# EAGLE library part PIC18F8*20 (library Julian_microchip)
80-Pin High Performance, 1 Mbit Enhanced FLASH Microcontrollers with A/D and expansion bus DEVICE DIFFERENCES Feature PIC18F8520 PIC18F8620 PIC18F8720 On-chip Program Memory (Kbytes) 32 64 128 Data Memory (bytes) 2048 3840 3840 Boot Block (bytes) 2048 512 512 Timer1 Low Power Option Yes No No I/O Ports Ports A, B, C, D, E, F, G, H,J Ports A, B, C, D, E, F, G, H,J Ports A, B, C, D, E, F, G, H,J A/D Channels 16 16 16 External Memory Interface Yes Yes Yes Package Types 80-pin TQFP 80-pin TQFP 80-pin TQFP NOTES: E suffix means the extended temperature range from -40°C to +120°C I suffix means the industrial temperature range from -40°C to +85°C F only after 18, means normal voltage range, like 18F8520 FL after 18, means extended voltage range, like 18FL8520
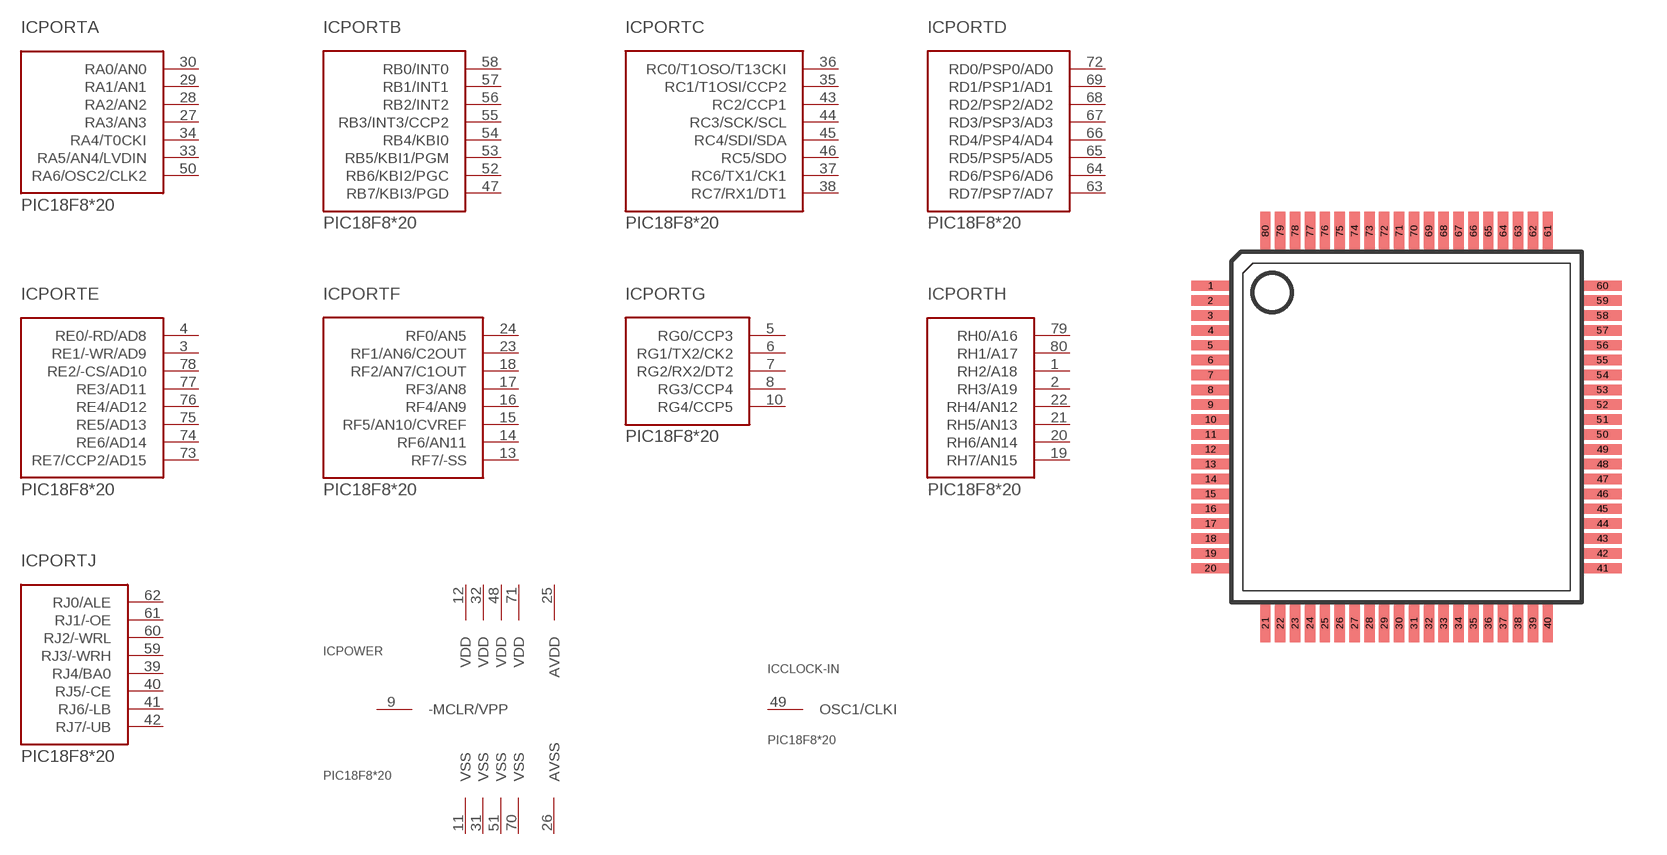
[diagram p1: symbol with the pads of TQFP80; footprint TQFP80]

Designator prefix IC; gates CLOCK-IN=PIC18FXX20-CLKIN PORTA=PIC18FXX20-PORTA PORTB=PIC18FXX20-PORTB PORTC=PIC18FXX20-PORTC PORTD=PIC18FXX20-PORTD PORTE=PIC18FXX20-PORTE PORTF=PIC18FXX20-PORTF PORTG=PIC18FXX20-PORTG PORTH=PIC18FXX20-PORTH PORTJ=PIC18FXX20-PORTJ POWER=PIC18FXX20-POWER

## PIC18F8520-E/PT, PIC18F8620-E/PT, PIC18F8720-E/PT  [TQFP80]
1  PORTH:RH2/A18
2  PORTH:RH3/A19
3  PORTE:RE1/-WR/AD9
4  PORTE:RE0/-RD/AD8
5  PORTG:RG0/CCP3
6  PORTG:RG1/TX2/CK2
7  PORTG:RG2/RX2/DT2
8  PORTG:RG3/CCP4
9  POWER:-MCLR/VPP  in
10  PORTG:RG4/CCP5
11  POWER:VSS  pwr
12  POWER:VDD  pwr
13  PORTF:RF7/-SS
14  PORTF:RF6/AN11
15  PORTF:RF5/AN10/CVREF
16  PORTF:RF4/AN9
17  PORTF:RF3/AN8
18  PORTF:RF2/AN7/C1OUT
19  PORTH:RH7/AN15
20  PORTH:RH6/AN14
21  PORTH:RH5/AN13
22  PORTH:RH4/AN12
23  PORTF:RF1/AN6/C2OUT
24  PORTF:RF0/AN5
25  POWER:AVDD  pwr
26  POWER:AVSS  pwr
27  PORTA:RA3/AN3
28  PORTA:RA2/AN2
29  PORTA:RA1/AN1
30  PORTA:RA0/AN0
31  POWER:VSS  pwr
32  POWER:VDD  pwr
33  PORTA:RA5/AN4/LVDIN
34  PORTA:RA4/T0CKI
35  PORTC:RC1/T1OSI/CCP2
36  PORTC:RC0/T1OSO/T13CKI
37  PORTC:RC6/TX1/CK1
38  PORTC:RC7/RX1/DT1
39  PORTJ:RJ4/BA0
40  PORTJ:RJ5/-CE
41  PORTJ:RJ6/-LB
42  PORTJ:RJ7/-UB
43  PORTC:RC2/CCP1
44  PORTC:RC3/SCK/SCL
45  PORTC:RC4/SDI/SDA
46  PORTC:RC5/SDO
47  PORTB:RB7/KBI3/PGD
48  POWER:VDD  pwr
49  CLOCK-IN:OSC1/CLKI  in
50  PORTA:RA6/OSC2/CLK2
51  POWER:VSS  pwr
52  PORTB:RB6/KBI2/PGC
53  PORTB:RB5/KBI1/PGM
54  PORTB:RB4/KBI0
55  PORTB:RB3/INT3/CCP2
56  PORTB:RB2/INT2
57  PORTB:RB1/INT1
58  PORTB:RB0/INT0
59  PORTJ:RJ3/-WRH
60  PORTJ:RJ2/-WRL
61  PORTJ:RJ1/-OE
62  PORTJ:RJ0/ALE
63  PORTD:RD7/PSP7/AD7
64  PORTD:RD6/PSP6/AD6
65  PORTD:RD5/PSP5/AD5
66  PORTD:RD4/PSP4/AD4
67  PORTD:RD3/PSP3/AD3
68  PORTD:RD2/PSP2/AD2
69  PORTD:RD1/PSP1/AD1
70  POWER:VSS  pwr
71  POWER:VDD  pwr
72  PORTD:RD0/PSP0/AD0
73  PORTE:RE7/CCP2/AD15
74  PORTE:RE6/AD14
75  PORTE:RE5/AD13
76  PORTE:RE4/AD12
77  PORTE:RE3/AD11
78  PORTE:RE2/-CS/AD10
79  PORTH:RH0/A16
80  PORTH:RH1/A17

## PIC18F8520-I/PT, PIC18F8620-I/PT, PIC18F8720-I/PT  [TQFP80]
Pads as for TQFP80

## Footprint TQFP80 (pad centres in mm)
Thin Quad Flat Pack
smd 1.3 x 0.35: 1 -6.595,4.75; 2 -6.595,4.25; 3 -6.595,3.75; 4 -6.595,3.25; 5 -6.595,2.75; 6 -6.595,2.25; 7 -6.595,1.75; 8 -6.595,1.25; 9 -6.595,0.75; 10 -6.595,0.25; 11 -6.595,-0.25; 12 -6.595,-0.75; 13 -6.595,-1.25; 14 -6.595,-1.75; 15 -6.595,-2.25; 16 -6.595,-2.75; 17 -6.595,-3.25; 18 -6.595,-3.75; 19 -6.595,-4.25; 20 -6.595,-4.75; 41 6.595,-4.75; 42 6.595,-4.25; 43 6.595,-3.75; 44 6.595,-3.25; 45 6.595,-2.75; 46 6.595,-2.25; 47 6.595,-1.75; 48 6.595,-1.25; 49 6.595,-0.75; 50 6.595,-0.25; 51 6.595,0.25; 52 6.595,0.75; 53 6.595,1.25; 54 6.595,1.75; 55 6.595,2.25; 56 6.595,2.75; 57 6.595,3.25; 58 6.595,3.75; 59 6.595,4.25; 60 6.595,4.75
smd 0.35 x 1.3: 21 -4.75,-6.595; 22 -4.25,-6.595; 23 -3.75,-6.595; 24 -3.25,-6.595; 25 -2.75,-6.595; 26 -2.25,-6.595; 27 -1.75,-6.595; 28 -1.25,-6.595; 29 -0.75,-6.595; 30 -0.25,-6.595; 31 0.25,-6.595; 32 0.75,-6.595; 33 1.25,-6.595; 34 1.75,-6.595; 35 2.25,-6.595; 36 2.75,-6.595; 37 3.25,-6.595; 38 3.75,-6.595; 39 4.25,-6.595; 40 4.75,-6.595; 61 4.75,6.595; 62 4.25,6.595; 63 3.75,6.595; 64 3.25,6.595; 65 2.75,6.595; 66 2.25,6.595; 67 1.75,6.595; 68 1.25,6.595; 69 0.75,6.595; 70 0.25,6.595; 71 -0.25,6.595; 72 -0.75,6.595; 73 -1.25,6.595; 74 -1.75,6.595; 75 -2.25,6.595; 76 -2.75,6.595; 77 -3.25,6.595; 78 -3.75,6.595; 79 -4.25,6.595; 80 -4.75,6.595